# EAGLE library part TX4138 (library TX4138)
DC-DC Converters Step-Down Adjustable 1 4.5V 60V 0.8V 40V 4A ESOIC-8 RoHS Source: Datasheet <https://datasheet.lcsc.com/szlcsc/XDS-TX4138_C329267.pdf>
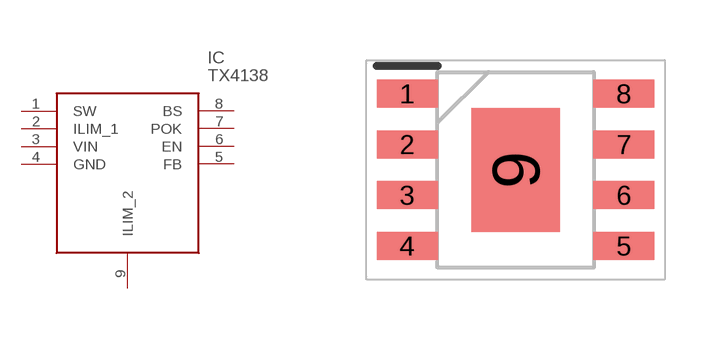
[diagram p0: symbol with the pads of SOIC127P600X165-9N; footprint SOIC127P600X165-9N]

Designator prefix IC

## TX4138 (Description: DC-DC Converters Step-Down Adjustable 1 4.5V 60V 0.8V 40V 4A ESOIC-8 RoHS; Height: 1.65mm; Manufacturer_Name: XDS; Manufacturer_Part_Number: TX4138)  [SOIC127P600X165-9N]
1  SW
2  ILIM_1
3  VIN
4  GND
5  FB
6  EN
7  POK
8  BS
9  ILIM_2

## Footprint SOIC127P600X165-9N (pad centres in mm)
ESOIC8
smd 1.525 x 0.7: 1 -2.712,1.905; 2 -2.712,0.635; 3 -2.712,-0.635; 4 -2.712,-1.905; 5 2.712,-1.905; 6 2.712,-0.635; 7 2.712,0.635; 8 2.712,1.905
smd 2.21 x 3.1: 9 0,0